# Altium footprint library 171814-0003.PcbLib: 1 footprints
Each footprint in its own frame and in the unit in brackets; x right, y up, seen from the top. Pads: shape width x height; smd on the part's side, far side on the other; paste and mask are expansions set on the pad; w line width, h text height; cw(c..) or ccw(c..) is an arc to the next point about the centre after c.
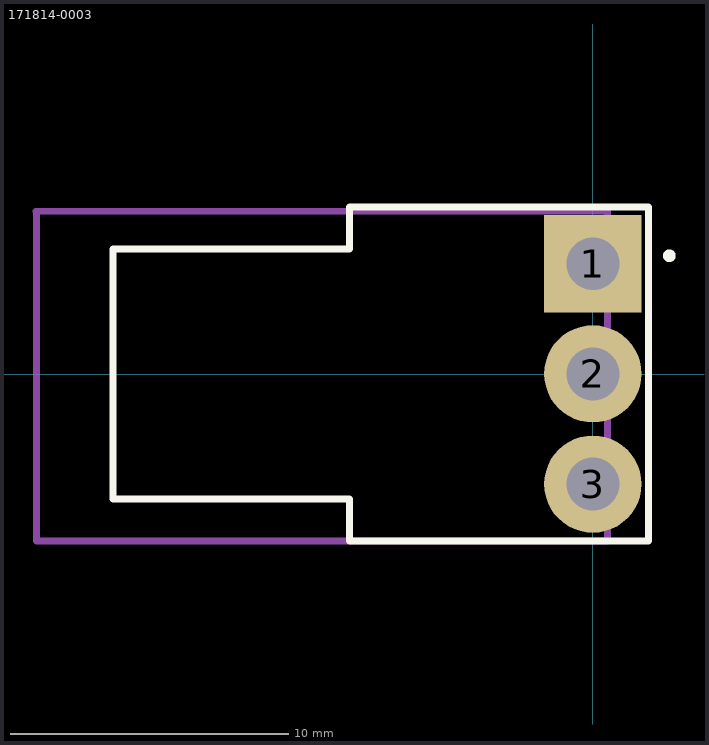
[diagram p0: the footprint, top view; thin cyan lines are the x and y axes]

## 171814-0003 [mm]
pads (3):
  rect 3.5x3.5 hole 1.9 mask+0.051: 1(0,3.963)
  round 3.5 hole 1.9 mask+0.051: 2(0,0.003) 3(0,-3.957)
Top Overlay:
  circle w0.254: c2.75,4.25 r0.102
  lines w0.25: -17.25,-4.5 -17.25,4.5 -8.75,4.5 -8.75,6 2,6 2,-6 -8.75,-6 -8.75,-4.5 -17.25,-4.5
Mechanical 13:
  lines w0.25: -20.025,5.85 0.525,5.85 0.525,-6 -20,-6 -20,5.825
Mechanical 15:
  lines w0.25: -0.737,0.013 0,0.013 ; 0,-0.75 0,0.013 ; 0,0.5 0,0.013 ; 0.737,0.013 0,0.013
3D body "1718140003.stp": height 6.57, standoff -5.98, extent -20.024,-5.875 0.575,5.86